# EAGLE library part MAX11300 (library mullac)
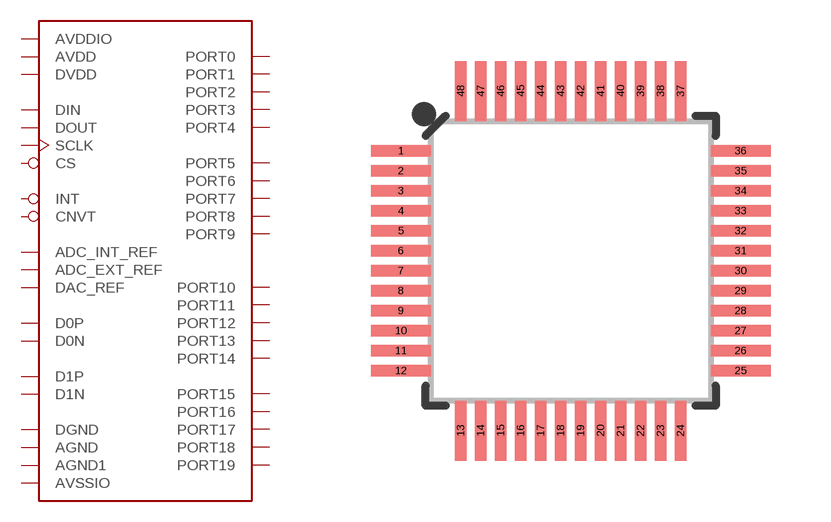
[diagram p16: symbol with the pads of TQFP-48; footprint TQFP-48]

Designator prefix -

## MAX11300TQFP  [TQFP-48]
1  PORT19
2  DGND
3  DVDD
4  DIN
5  SCLK
6  CS
7  DOUT
8  INT
9  CNVT
10  ADC_INT_REF
11  ADC_EXT_REF
12  DAC_REF
13  D0P
14  D0N
15  AVDD
16  AVDD
17  AGND
18  AGND
19  PORT0
20  PORT1
21  PORT2
22  D1P
23  D1N
24  AVSSIO
25  PORT3
26  AVDDIO
27  PORT4
28  PORT5
29  AVSSIO
30  PORT6
31  PORT7
32  PORT8
33  PORT9
34  AVSSIO
35  PORT10
36  PORT11
37  PORT12
38  AGND1
39  AVDDIO
40  PORT13
41  AVSSIO
42  PORT14
43  PORT15
44  AVSSIO
45  PORT16
46  PORT17
47  PORT18
48  AVSSIO

## Footprint TQFP-48 (pad centres in mm)
48-pin TQFP (7x7mm, 0.5mm pitch) Used on: ATSAMD21G
smd 1.5 x 0.28: 1 -4.25,2.75; 2 -4.25,2.25; 3 -4.25,1.75; 4 -4.25,1.25; 5 -4.25,0.75; 6 -4.25,0.25; 7 -4.25,-0.25; 8 -4.25,-0.75; 9 -4.25,-1.25; 10 -4.25,-1.75; 11 -4.25,-2.25; 12 -4.25,-2.75; 25 4.25,-2.75; 26 4.25,-2.25; 27 4.25,-1.75; 28 4.25,-1.25; 29 4.25,-0.75; 30 4.25,-0.25; 31 4.25,0.25; 32 4.25,0.75; 33 4.25,1.25; 34 4.25,1.75; 35 4.25,2.25; 36 4.25,2.75
smd 0.28 x 1.5: 13 -2.75,-4.25; 14 -2.25,-4.25; 15 -1.75,-4.25; 16 -1.25,-4.25; 17 -0.75,-4.25; 18 -0.25,-4.25; 19 0.25,-4.25; 20 0.75,-4.25; 21 1.25,-4.25; 22 1.75,-4.25; 23 2.25,-4.25; 24 2.75,-4.25; 37 2.75,4.25; 38 2.25,4.25; 39 1.75,4.25; 40 1.25,4.25; 41 0.75,4.25; 42 0.25,4.25; 43 -0.25,4.25; 44 -0.75,4.25; 45 -1.25,4.25; 46 -1.75,4.25; 47 -2.25,4.25; 48 -2.75,4.25